# Altium footprint library 封装.PcbLib: 21 footprints (part 2 of 2)
Each footprint in its own frame and in the unit in brackets; x right, y up, seen from the top. Pads: shape width x height; smd on the part's side, far side on the other; paste and mask are expansions set on the pad; w line width, h text height; cw(c..) or ccw(c..) is an arc to the next point about the centre after c.
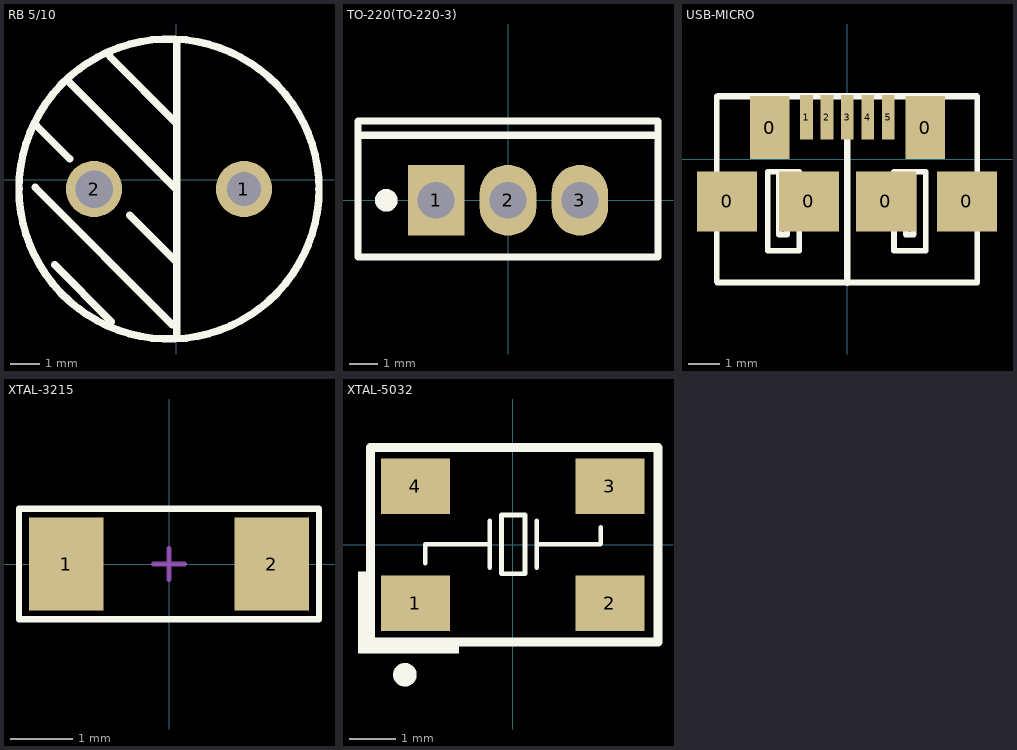
[diagram p1: the footprints below, top view; thin cyan lines are the x and y axes]

## RB 5/10 [mm] "管脚间距5mm，直径10mm"
pads (2):
  round 1.905 hole 1.143: 1(2.301,-0.305)
  round 1.905 hole 1.27: 2(-2.779,-0.305)
Top Overlay:
  circle w0.254: c-0.239,-0.305 r5.08
  lines w0.254: -4.775,-0.254 -0.127,-4.902 0.025,-4.902 ; -4.724,1.829 -3.607,0.711 ; -4.115,-2.87 -2.191,-4.794 ; -3.581,3.277 0.025,-0.33 0.025,-1.422 ; -2.235,4.166 0.025,1.905 0.025,1.753 ; -1.575,-1.194 0,-2.769 0.025,-2.769 ; 0,-5.359 0.025,-5.334 0.025,0 0.025,4.648
3D body "User Library-CE_R200_D400_H800.STEP": height 2.3, standoff -20.92, extent -5.258,-5.346 4.902,4.788

## TO-220(TO-220-3) [mm]
pads (3):
  rect 2x2.5 hole 1.3: 1(-2.54,0)
  oval 2x2.5 hole 1.3: 2(0,0) 3(2.54,0)
Top Overlay:
  circle w0.4: c-4.3,0 r0.2
  lines w0.254: -5.3,2.3 5.3,2.3 ; -5.3,-2 5.3,-2 5.3,2.8 -5.3,2.8 -5.3,-2
3D body "TO-220-3.STEP": height 19.6, standoff -8.87, extent -5.08,-1.451 5.08,2.9

## USB-MICRO [mm]
pads (11):
  rect 1.9x1.9 smd: 0(-3.797,-1.333) 0(-1.206,-1.333) 0(1.232,-1.333) 0(3.797,-1.333)
  rect 1.25x2 smd: 0(-2.451,1.003) 0(2.476,1.003)
  rect 0.4x1.4 smd: 1(-1.283,1.333) 2(-0.635,1.333) 3(0.013,1.333) 4(0.66,1.333) 5(1.308,1.333)
Top Overlay:
  lines w0.178: -4.127,-3.873 -4.127,1.994 ; -4.102,-3.899 4.102,-3.899 ; -2.152,-0.394 -2.152,-2.379 -1.949,-2.379 -1.898,-2.379 -1.898,-0.394 ; 1.861,-0.394 1.861,-2.379 2.115,-2.379 2.115,-0.394 ; 4.127,-3.899 4.127,1.994 ; -2.513,-2.894 -1.513,-2.894 -1.513,-0.394 -2.513,-0.394 -2.513,-2.894 ; 1.487,-2.894 1.487,-0.394 2.487,-0.394 2.487,-2.894 1.487,-2.894
  lines w0.2: -4.077,1.994 4.102,1.994 ; 0.013,-3.91 0.013,1.968
3D body "MICRO USB.STEP": height 2.77, standoff -0.17, extent -4.1,-3.912 4.1,2.018

## XTAL-3215 [mm]
pads (2):
  rect 1.2x1.5 smd: 1(-1.65,0) 2(1.65,0)
Top Overlay:
  lines w0.1: -2.413,-0.889 2.413,-0.889 2.413,0.889 -2.413,0.889 -2.413,-0.889
Mechanical 15:
  lines w0.076: -0.254,0 0.254,0 ; 0,-0.254 0,0.254
3D body "User Library-X3215.STEP": height 0.81, standoff 0, extent -1.6,-0.75 1.6,0.75

## XTAL-5032 [mm]
pads (4):
  rect 1.5x1.2 smd: 1(-2.108,-1.27) 2(2.108,-1.27) 3(2.108,1.27) 4(-2.108,1.27)
Top Overlay:
  circle w0.254: c-2.337,-2.819 r0.127
  rectangle: -3.353,-2.362 -3.175,-0.584
  rectangle: -3.175,-2.362 -1.168,-2.108
  lines w0.1: -1.897,-0.406 -1.897,0.008 -0.496,0.008 ; -0.496,-0.5 -0.496,0.516 ; 0.52,-0.5 0.52,0.516 ; 0.52,0.008 1.902,0.008 1.905,0.016 1.905,0.381 ; -0.242,-0.627 0.266,-0.627 0.266,-0.309 0.266,0.326 0.266,0.643 -0.242,0.643 -0.242,-0.627
  lines w0.2: -3.079,-2.108 -3.079,2.108 3.15,2.108 3.15,-2.108 -3.079,-2.108
3D body "User Library-CRYSTALSMD5X32.STEP": height 1, standoff 0, extent -2.5,-1.6 2.5,1.6